# Altium schematic symbol library AP7313-XXSAG-7.SchLib: 1 symbol
Pins are listed as number, name and electrical type; pins without a type are passive.

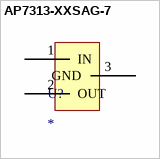
[diagram p0: symbol AP7313-XXSAG-7]

## AP7313-XXSAG-7
designator U?
AP7313-XXSAG-7
footprint AP7313-XXSAG-7 (SOT95P240X135-3N, SOT23, 3-Leads, Body 2.90x2.40mm, Pitch 0.95mm, IPC Medium Density)
pins: 1 IN, 2 OUT, 3 GND